# EAGLE library part MC14584BDR2G (library On Semiconductor)
Hex Schmitt Trigger
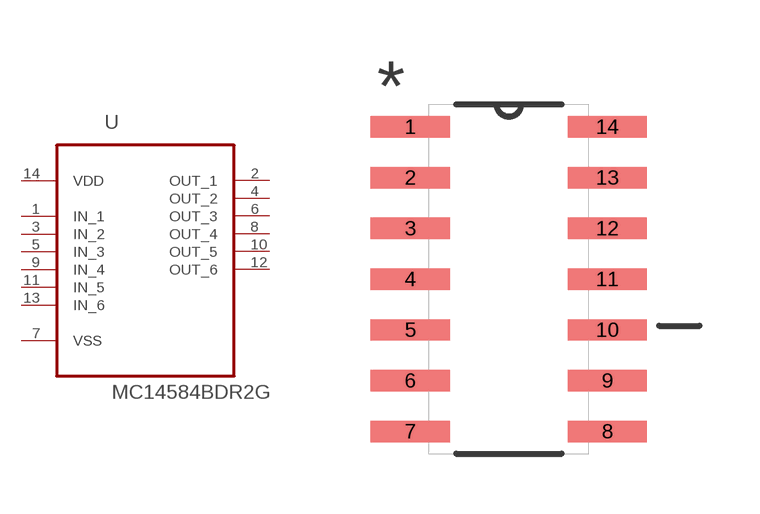
[diagram p308: symbol with the pads of SOIC127P600X175-14N; footprint SOIC127P600X175-14N]

Designator prefix U

## MC14584BDR2G (MPN: MC14584BDR2G; OC_FARNELL: 1365199; OC_NEWARK: 84K8756; PACKAGE: SOIC-14; SUPPLIER: ON SEMICONDUCTOR)  [SOIC127P600X175-14N]
1  IN_1  in
2  OUT_1  out
3  IN_2  in
4  OUT_2  out
5  IN_3  in
6  OUT_3  out
7  VSS  pas
8  OUT_4  out
9  IN_4  in
10  OUT_5  out
11  IN_5  in
12  OUT_6  out
13  IN_6  in
14  VDD  pwr

## Footprint SOIC127P600X175-14N (pad centres in mm)
smd 1.981 x 0.533: 1 -2.464,3.81; 2 -2.464,2.54; 3 -2.464,1.27; 4 -2.464,0; 5 -2.464,-1.27; 6 -2.464,-2.54; 7 -2.464,-3.81; 8 2.464,-3.81; 9 2.464,-2.54; 10 2.464,-1.27; 11 2.464,0; 12 2.464,1.27; 13 2.464,2.54; 14 2.464,3.81